# Altium footprint library GameManFootPrints.PcbLib: 49 footprints (part 2 of 4)
Each footprint in its own frame and in the unit in brackets; x right, y up, seen from the top. Pads: shape width x height; smd on the part's side, far side on the other; paste and mask are expansions set on the pad; w line width, h text height; cw(c..) or ccw(c..) is an arc to the next point about the centre after c.
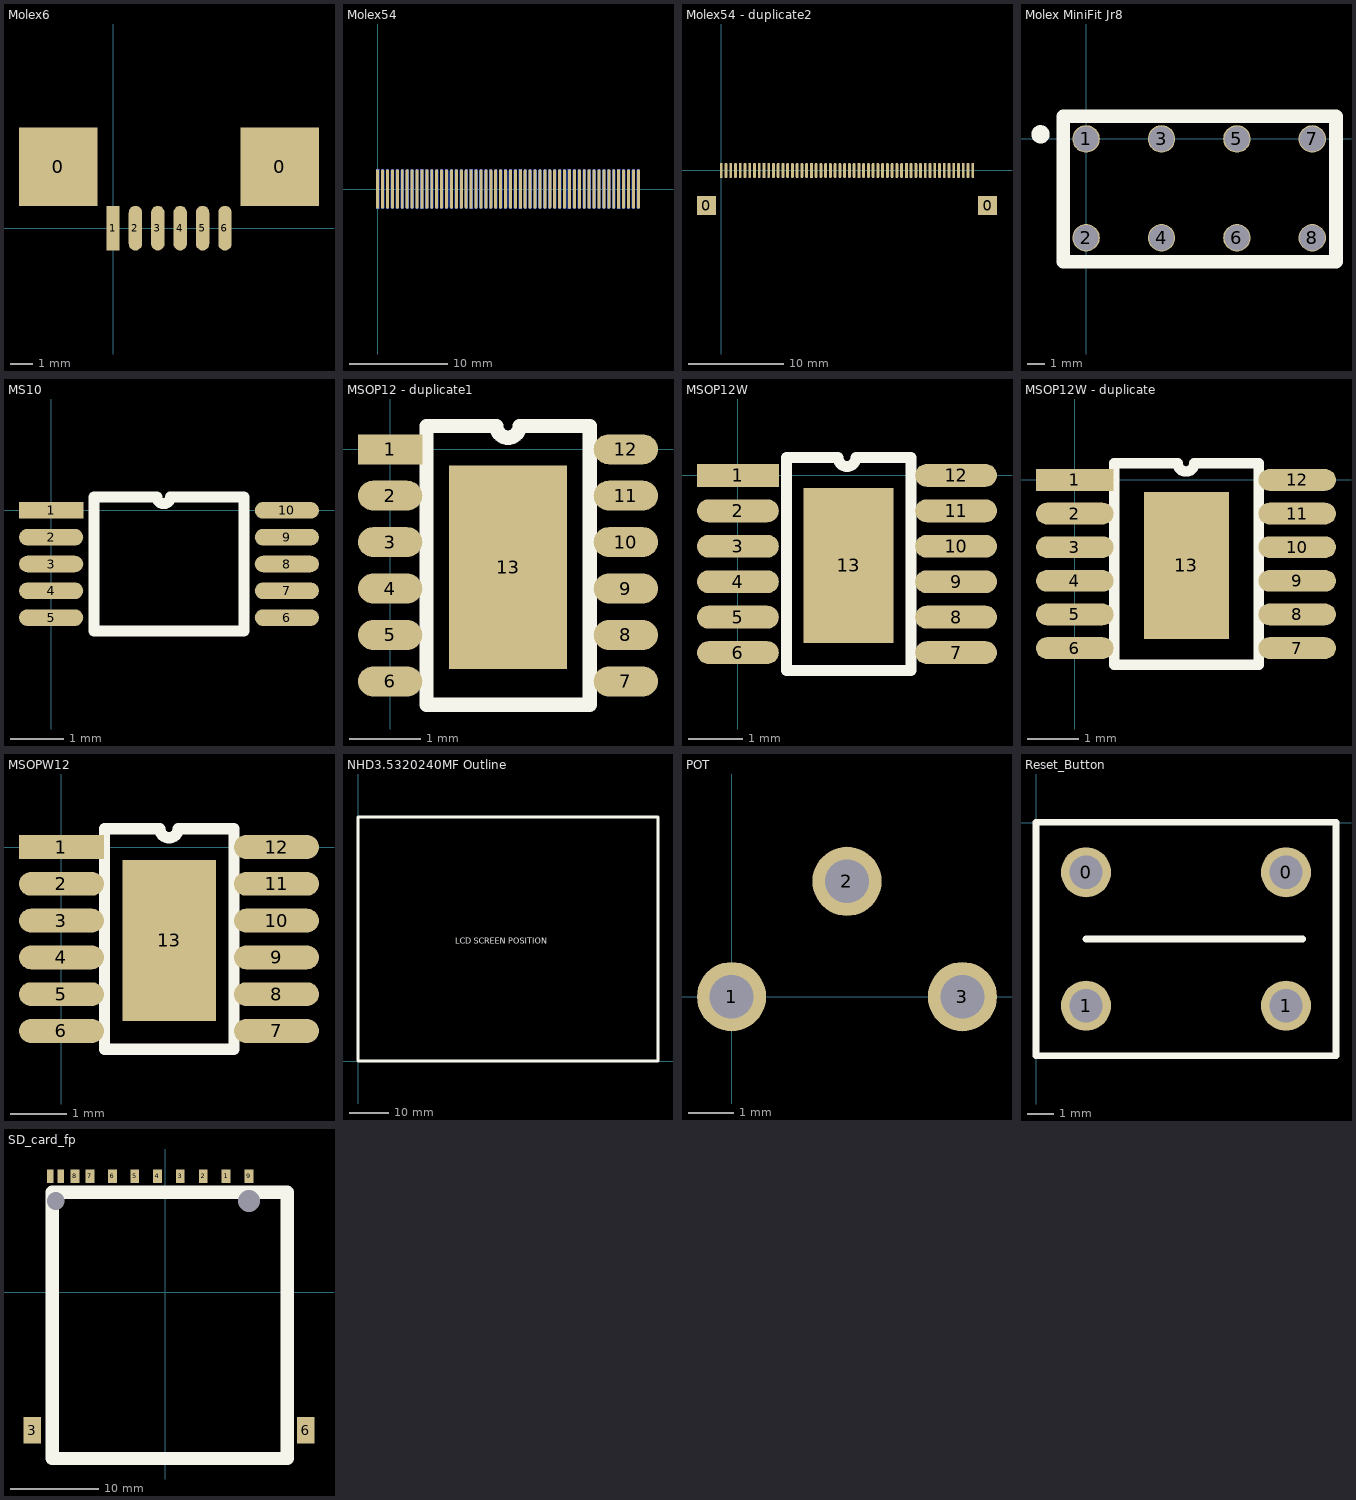
[diagram p1: the footprints below, top view; thin cyan lines are the x and y axes]

## Molex6 [mm]
pads (8):
  rect 3.5x3.5 smd: 0(-2.45,2.75) 0(7.45,2.75)
  rect 0.6x2 smd paste+0: 1(0,0)
  oval 0.6x2 smd paste+0: 2(1,0) 3(2,0) 4(3,0) 5(4,0) 6(5,0)

## Molex54 [mm]
pads (108):
  rect 0.3x4 smd: A1(0,0) A10(4.5,0) A20(9.5,0) A30(14.5,0) A40(19.5,0) A50(24.5,0)
  oval 0.3x4 smd: A2(0.5,0) A3(1,0) A4(1.5,0) A5(2,0) A6(2.5,0) A7(3,0) A8(3.5,0) A9(4,0) A11(5,0) A12(5.5,0) A13(6,0) A14(6.5,0) A15(7,0) A16(7.5,0) A17(8,0) A18(8.5,0) A19(9,0) A21(10,0) A22(10.5,0) A23(11,0) A24(11.5,0) A25(12,0) A26(12.5,0) A27(13,0) A28(13.5,0) A29(14,0) A31(15,0) A32(15.5,0) A33(16,0) A34(16.5,0) A35(17,0) A36(17.5,0) A37(18,0) A38(18.5,0) A39(19,0) A41(20,0) A42(20.5,0) A43(21,0) A44(21.5,0) A45(22,0) A46(22.5,0) A47(23,0) A48(23.5,0) A49(24,0) A51(25,0) A52(25.5,0) A53(26,0) A54(26.5,0)
  rect 0.3x4 smd far side: B1(0,0) B10(4.5,0) B20(9.5,0) B30(14.5,0) B40(19.5,0) B50(24.5,0)
  oval 0.3x4 smd far side: B2(0.5,0) B3(1,0) B4(1.5,0) B5(2,0) B6(2.5,0) B7(3,0) B8(3.5,0) B9(4,0) B11(5,0) B12(5.5,0) B13(6,0) B14(6.5,0) B15(7,0) B16(7.5,0) B17(8,0) B18(8.5,0) B19(9,0) B21(10,0) B22(10.5,0) B23(11,0) B24(11.5,0) B25(12,0) B26(12.5,0) B27(13,0) B28(13.5,0) B29(14,0) B31(15,0) B32(15.5,0) B33(16,0) B34(16.5,0) B35(17,0) B36(17.5,0) B37(18,0) B38(18.5,0) B39(19,0) B41(20,0) B42(20.5,0) B43(21,0) B44(21.5,0) B45(22,0) B46(22.5,0) B47(23,0) B48(23.5,0) B49(24,0) B51(25,0) B52(25.5,0) B53(26,0) B54(26.5,0)

## Molex54 - duplicate2 [mm]
pads (56):
  rect 2x2 smd: 0(-1.55,-3.7) 0(28.05,-3.7)
  rect 0.3x1.6 smd: A1(0,0) A10(4.5,0) A20(9.5,0) A30(14.5,0) A40(19.5,0) A50(24.5,0)
  oval 0.3x1.6 smd: A2(0.5,0) A3(1,0) A4(1.5,0) A5(2,0) A6(2.5,0) A7(3,0) A8(3.5,0) A9(4,0) A11(5,0) A12(5.5,0) A13(6,0) A14(6.5,0) A15(7,0) A16(7.5,0) A17(8,0) A18(8.5,0) A19(9,0) A21(10,0) A22(10.5,0) A23(11,0) A24(11.5,0) A25(12,0) A26(12.5,0) A27(13,0) A28(13.5,0) A29(14,0) A31(15,0) A32(15.5,0) A33(16,0) A34(16.5,0) A35(17,0) A36(17.5,0) A37(18,0) A38(18.5,0) A39(19,0) A41(20,0) A42(20.5,0) A43(21,0) A44(21.5,0) A45(22,0) A46(22.5,0) A47(23,0) A48(23.5,0) A49(24,0) A51(25,0) A52(25.5,0) A53(26,0) A54(26.5,0)

## Molex MiniFit Jr8 [mil] "10 pin minifit jr (power cable)"
pads (8):
  round 60 hole 55: 1(0,0) 2(0,-217) 3(165.5,0) 4(165.5,-217) 5(330.9,0) 6(330.9,-217) 7(496.3,0) 8(496.3,-217)
Top Overlay:
  circle w20: c-100,10 r10
  lines w30: -50,-270 -50,50 548.43,50 548.43,-7.87 548.43,-270 -50,-270

## MS10 [mm]
pads (10):
  rect 1.2x0.31 smd: 1(0,0)
  oval 1.2x0.31 smd: 2(0,-0.5) 3(0,-1) 4(0,-1.5) 5(0,-2) 6(4.4,-2) 7(4.4,-1.5) 8(4.4,-1) 9(4.4,-0.5) 10(4.4,0)
Top Overlay:
  lines w0.2: 0.8,-2.25 3.6,-2.25 3.6,0.25 2.225,0.25 cw(c2.1,0.25) 1.975,0.25 0.8,0.25 0.8,-2.25

## MSOP12 - duplicate1 [mm]
pads (13):
  rect 0.9x0.42 smd: 1(0,0)
  oval 0.9x0.42 smd: 2(0,-0.65) 3(0,-1.3) 4(0,-1.95) 5(0,-2.6) 6(0,-3.25) 7(3.3,-3.25) 8(3.3,-2.6) 9(3.3,-1.95) 10(3.3,-1.3) 11(3.3,-0.65) 12(3.3,0)
  rect 1.65x2.845 smd: 13(1.651,-1.651)
Top Overlay:
  lines w0.2: 0.508,-3.575 2.794,-3.575 2.794,0.325 1.812,0.325 cw(c1.65,0.325) 1.488,0.325 0.508,0.325 0.508,-3.575

## MSOP12W [mm]
pads (13):
  rect 1.5x0.42 smd: 1(0,0)
  oval 1.5x0.42 smd: 2(0,-0.65) 3(0,-1.3) 4(0,-1.95) 5(0,-2.6) 6(0,-3.25) 7(4,-3.25) 8(4,-2.6) 9(4,-1.95) 10(4,-1.3) 11(4,-0.65) 12(4,0)
  rect 1.65x2.845 smd: 13(2.032,-1.651)
Top Overlay:
  lines w0.2: 0.889,-3.575 0.889,0.325 1.837,0.325 ccw(c2,0.325) 2.162,0.325 3.175,0.325 3.175,-3.575 0.889,-3.575

## MSOP12W - duplicate [mm]
pads (13):
  rect 1.5x0.42 smd: 1(0,0)
  oval 1.5x0.42 smd: 2(0,-0.65) 3(0,-1.3) 4(0,-1.95) 5(0,-2.6) 6(0,-3.25) 7(4.3,-3.25) 8(4.3,-2.6) 9(4.3,-1.95) 10(4.3,-1.3) 11(4.3,-0.65) 12(4.3,0)
  rect 1.65x2.845 smd: 13(2.159,-1.651)
Top Overlay:
  lines w0.2: 0.762,-3.575 0.762,0.325 1.987,0.325 ccw(c2.15,0.325) 2.312,0.325 3.556,0.325 3.556,-3.575 0.762,-3.575

## MSOPW12 [mm]
pads (13):
  rect 1.5x0.42 smd: 1(0,0)
  oval 1.5x0.42 smd: 2(0,-0.65) 3(0,-1.3) 4(0,-1.95) 5(0,-2.6) 6(0,-3.25) 7(3.8,-3.25) 8(3.8,-2.6) 9(3.8,-1.95) 10(3.8,-1.3) 11(3.8,-0.65) 12(3.8,0)
  rect 1.65x2.845 smd: 13(1.905,-1.651)
Top Overlay:
  lines w0.2: 0.762,-3.575 0.762,0.325 1.737,0.325 ccw(c1.9,0.325) 2.062,0.325 3.048,0.325 3.048,-3.575 0.762,-3.575

## NHD3.5320240MF Outline [mm] "outline of LCD for placement"
Top Overlay:
  lines w0.762: 0,0 0,62.484 76.708,62.484 76.708,0 0,0
  text "LCD SCREEN POSITION" at 24.892,29.972 h1.52

## PCBComponent_1 [mm]

## PCBComponent_1 - duplicate [mm]

## PCBComponent_1 - duplicate1 [mm]

## POT [mil]
pads (3):
  round 60 hole 38: 1(0,0) 2(100,100) 3(200,0)

## Reset_Button [mm]
pads (4):
  round 1.905 hole 1.27: 0(1.886,-1.883) 0(9.506,-1.883) 1(1.886,-6.963) 1(9.506,-6.963)
Top Overlay:
  lines w0.254: 1.886,-4.423 7.093,-4.423 ; 5.95,-4.423 10.141,-4.423 ; -0.019,-8.868 11.411,-8.868 11.411,0.022 -0.019,0.022 -0.019,-8.868

## SD_card_fp [mm]
height 6.35
pads (15):
  round 0 hole 2: 0(-12.39,10.325)
  round 0 hole 2.5: 0(9.47,10.325)
  rect 1x1.5 smd: 1(6.88,13.125) 2(4.29,13.125) 3(1.7,13.125) 4(-0.89,13.125) 5(-3.46,13.125) 6(-5.99,13.125) 7(-8.52,13.125) 8(-10.22,13.125) 9(9.47,13.125)
  rect 2x3 smd: 3(-15.05,-15.625) 6(15.89,-15.625)
  rect 0.7x1.5 smd: 10(-11.82,13.125) 11(-13.02,13.125)
Top Overlay:
  lines w1.5: -12.8,-18.8 -12.8,11.3 13.8,11.3 13.8,-18.8 -12.8,-18.8